# Altium schematic symbol library 622 0xx 218 21.SchLib: 7 symbols
Pins are listed as number, name and electrical type; pins without a type are passive.

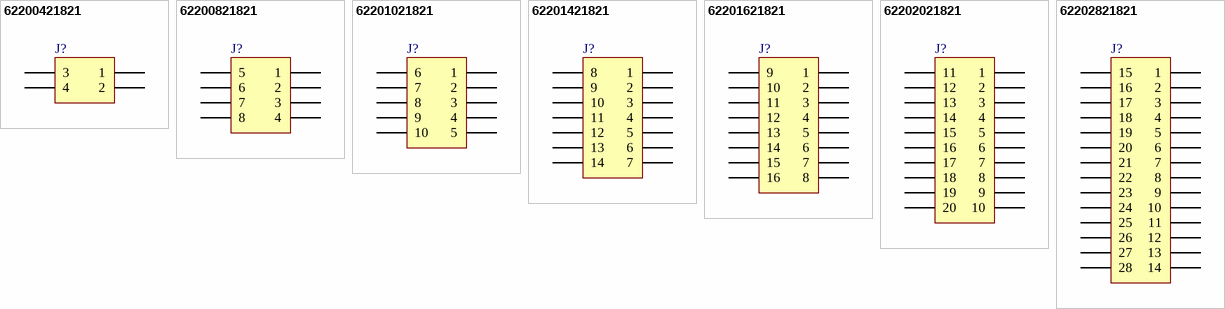
[diagram p0: symbols 62200421821 to 62202821821]

## 62200421821
designator J?, comment 04p  (value not drawn)
WR-PHD 1.27 mm Dual Socket Header, 04p; PartNumber: 62200421821; PublishedDate: July 2016; Publisher: Wurth Elektronik; ComponentLink1Description: Manufacturer; ComponentLink1URL: http://www.we-online.de; ComponentLink2Description: Datasheet; ComponentLink2URL: http://katalog.we-online.de/em/datasheet/6220xx21821.pdf; PinNumber: 04p
footprint 62200421821
pins: 1, 2, 3, 4

## 62200821821
designator J?, comment 08p  (value not drawn)
WR-PHD 1.27 mm Dual Socket Header, 08p; PartNumber: 62200821821; PublishedDate: July 2016; Publisher: Wurth Elektronik; ComponentLink1Description: Manufacturer; ComponentLink1URL: http://www.we-online.de; ComponentLink2Description: Datasheet; ComponentLink2URL: http://katalog.we-online.de/em/datasheet/6220xx21821.pdf; PinNumber: 08p
footprint 62200821821
pins: 1, 2, 3, 4, 5, 6, 7, 8

## 62201021821
designator J?, comment 10p  (value not drawn)
WR-PHD 1.27 mm Dual Socket Header, 10p; PartNumber: 62201021821; PublishedDate: July 2016; Publisher: Wurth Elektronik; ComponentLink1Description: Manufacturer; ComponentLink1URL: http://www.we-online.de; ComponentLink2Description: Datasheet; ComponentLink2URL: http://katalog.we-online.de/em/datasheet/6220xx21821.pdf; PinNumber: 10p
footprint 62201021821
pins: 1, 2, 3, 4, 5, 6, 7, 8, 9, 10

## 62201421821
designator J?, comment 14p  (value not drawn)
WR-PHD 1.27 mm Dual Socket Header, 14p; PartNumber: 62201421821; PublishedDate: July 2016; Publisher: Wurth Elektronik; ComponentLink1Description: Manufacturer; ComponentLink1URL: http://www.we-online.de; ComponentLink2Description: Datasheet; ComponentLink2URL: http://katalog.we-online.de/em/datasheet/6220xx21821.pdf; PinNumber: 14p
footprint 62201421821
pins: 1, 2, 3, 4, 5, 6, 7, 8, 9, 10, 11, 12, 13, 14

## 62201621821
designator J?, comment 16p  (value not drawn)
WR-PHD 1.27 mm Dual Socket Header, 16p; PartNumber: 62201621821; PublishedDate: July 2016; Publisher: Wurth Elektronik; ComponentLink1Description: Manufacturer; ComponentLink1URL: http://www.we-online.de; ComponentLink2Description: Datasheet; ComponentLink2URL: http://katalog.we-online.de/em/datasheet/6220xx21821.pdf; PinNumber: 16p
footprint 62201621821
pins: 1, 2, 3, 4, 5, 6, 7, 8, 9, 10, 11, 12, 13, 14, 15, 16

## 62202021821
designator J?, comment 20p  (value not drawn)
WR-PHD 1.27 mm Dual Socket Header, 20p; PartNumber: 62202021821; PublishedDate: July 2016; Publisher: Wurth Elektronik; ComponentLink1Description: Manufacturer; ComponentLink1URL: http://www.we-online.de; ComponentLink2Description: Datasheet; ComponentLink2URL: http://katalog.we-online.de/em/datasheet/6220xx21821.pdf; PinNumber: 20p
footprint 62202021821
pins: 1, 2, 3, 4, 5, 6, 7, 8, 9, 10, 11, 12, 13, 14, 15, 16, 17, 18, 19, 20

## 62202821821
designator J?, comment 28p  (value not drawn)
WR-PHD 1.27 mm Dual Socket Header, 28p; PartNumber: 62202821821; PublishedDate: July 2016; Publisher: Wurth Elektronik; ComponentLink1Description: Manufacturer; ComponentLink1URL: http://www.we-online.de; ComponentLink2Description: Datasheet; ComponentLink2URL: http://katalog.we-online.de/em/datasheet/6220xx21821.pdf; PinNumber: 28p
footprint 62202821821
pins: 1, 2, 3, 4, 5, 6, 7, 8, 9, 10, 11, 12, 13, 14, 15, 16, 17, 18, 19, 20, 21, 22, 23, 24, 25, 26, 27, 28